# Altium integrated library Linear Technology Power Management Power Control.IntLib: 661 symbols (part 24 of 43)
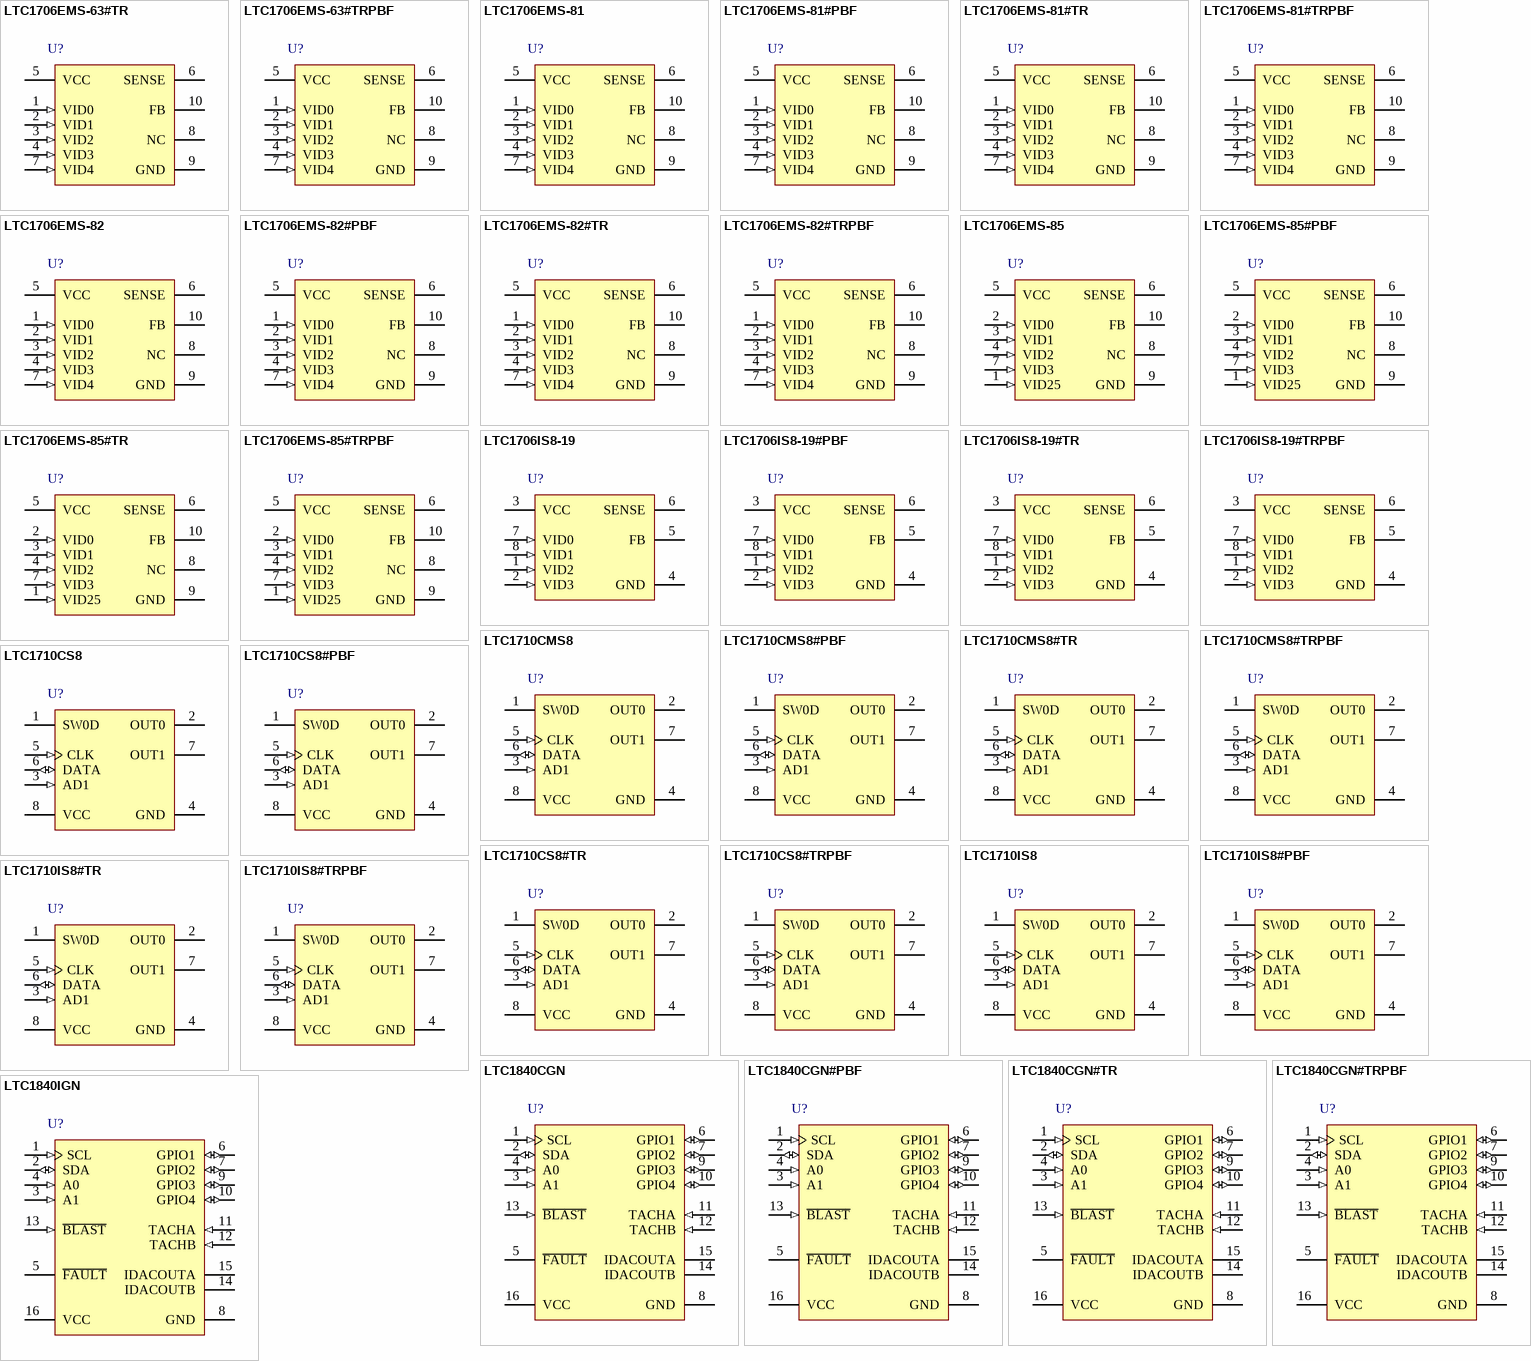
[diagram p42: symbols LTC1706EMS-63#TR to LTC1840IGN]

## LTC1706EMS-81#PBF
designator U?
5-Bit Desktop VID Voltage Programmer, 2.7 to 5.5 V Vin, 10-pin SOP (MS-10), -40 to 85 degC, Pb-Free; Manufacturer: Linear Technology; PartNumber: LTC1706EMS-81#PBF; PackageVersion: Rev. E, 06/2010; PackageReference: MS-10; PackageDescription: 10-Pin Plastic MSOP, Body 3 x 3 mm, Pitch 0.5 mm; Supplier 1: Digi-Key; Supplier Part Number 1: LTC1706EMS-81#PBF-ND; RoHS: TRUE; Mounting Technology: Surface Mount; ComponentLink1Description: Manufacturer URL; ComponentLink1URL: http://www.linear.com/; ComponentLink2Description: Datasheet; ComponentLink2URL: http://cds.linear.com/docs/en/datasheet/170681f.pdf; ComponentLink3Description: Package Specification; ComponentLink3URL: http://cds.linear.com/docs/en/packaging/05081661_F_MS.pdf
footprint LT-MS-10_N (SOP, 10-Leads, Body 3.1x3.1mm, Pitch 0.5mm, IPC Medium Density)
footprint LT-MS-10_L (SOP, 10-Leads, Body 3.1x3.1mm, Pitch 0.5mm, IPC High Density)
footprint LT-MS-10_M (SOP, 10-Leads, Body 3.1x3.1mm, Pitch 0.5mm, IPC Low Density)
pins: 1 VID0 (in), 2 VID1 (in), 3 VID2 (in), 4 VID3 (in), 5 VCC (power) "Power Supply Voltage. Range from 2.7V to 5.5V.", 6 SENSE "Regulator Output Voltage. Connect directly to regulator output sense node.", 7 VID4 (in), 8 NC "No Connect", 9 GND (power) "Ground. Connect to regulator signal ground", 10 FB "Feedback Input."

## LTC1706EMS-81#TR
designator U?
5-Bit Desktop VID Voltage Programmer, 2.7 to 5.5 V Vin, 10-pin SOP (MS-10), -40 to 85 degC, Tape and Reel; Manufacturer: Linear Technology; PartNumber: LTC1706EMS-81#TR; PackageVersion: Rev. E, 06/2010; PackageReference: MS-10; PackageDescription: 10-Pin Plastic MSOP, Body 3 x 3 mm, Pitch 0.5 mm; Supplier 1: Digi-Key; Supplier Part Number 1: LTC1706EMS-81#TR-ND; Packing: Tape and Reel; RoHS: FALSE; Mounting Technology: Surface Mount; ComponentLink1Description: Manufacturer URL; ComponentLink1URL: http://www.linear.com/; ComponentLink2Description: Datasheet; ComponentLink2URL: http://cds.linear.com/docs/en/datasheet/170681f.pdf; ComponentLink3Description: Package Specification; ComponentLink3URL: http://cds.linear.com/docs/en/packaging/05081661_F_MS.pdf
footprint LT-MS-10_N (SOP, 10-Leads, Body 3.1x3.1mm, Pitch 0.5mm, IPC Medium Density)
footprint LT-MS-10_L (SOP, 10-Leads, Body 3.1x3.1mm, Pitch 0.5mm, IPC High Density)
footprint LT-MS-10_M (SOP, 10-Leads, Body 3.1x3.1mm, Pitch 0.5mm, IPC Low Density)
pins: 1 VID0 (in), 2 VID1 (in), 3 VID2 (in), 4 VID3 (in), 5 VCC (power) "Power Supply Voltage. Range from 2.7V to 5.5V.", 6 SENSE "Regulator Output Voltage. Connect directly to regulator output sense node.", 7 VID4 (in), 8 NC "No Connect", 9 GND (power) "Ground. Connect to regulator signal ground", 10 FB "Feedback Input."

## LTC1706EMS-81#TRPBF
designator U?
5-Bit Desktop VID Voltage Programmer, 2.7 to 5.5 V Vin, 10-pin SOP (MS-10), -40 to 85 degC, Pb-Free, Tape and Reel; Manufacturer: Linear Technology; PartNumber: LTC1706EMS-81#TRPBF; PackageVersion: Rev. E, 06/2010; PackageReference: MS-10; PackageDescription: 10-Pin Plastic MSOP, Body 3 x 3 mm, Pitch 0.5 mm; Supplier 1: Digi-Key; Supplier Part Number 1: LTC1706EMS-81#TRPBF-ND; Packing: Tape and Reel; RoHS: TRUE; Mounting Technology: Surface Mount; ComponentLink1Description: Manufacturer URL; ComponentLink1URL: http://www.linear.com/; ComponentLink2Description: Datasheet; ComponentLink2URL: http://cds.linear.com/docs/en/datasheet/170681f.pdf; ComponentLink3Description: Package Specification; ComponentLink3URL: http://cds.linear.com/docs/en/packaging/05081661_F_MS.pdf
footprint LT-MS-10_N (SOP, 10-Leads, Body 3.1x3.1mm, Pitch 0.5mm, IPC Medium Density)
footprint LT-MS-10_L (SOP, 10-Leads, Body 3.1x3.1mm, Pitch 0.5mm, IPC High Density)
footprint LT-MS-10_M (SOP, 10-Leads, Body 3.1x3.1mm, Pitch 0.5mm, IPC Low Density)
pins: 1 VID0 (in), 2 VID1 (in), 3 VID2 (in), 4 VID3 (in), 5 VCC (power) "Power Supply Voltage. Range from 2.7V to 5.5V.", 6 SENSE "Regulator Output Voltage. Connect directly to regulator output sense node.", 7 VID4 (in), 8 NC "No Connect", 9 GND (power) "Ground. Connect to regulator signal ground", 10 FB "Feedback Input."

## LTC1706EMS-82
designator U?
VID Programmer, 2.7 to 5.5 V Vin, 10-pin SOP (MS-10), -40 to 85 degC; Manufacturer: Linear Technology; PartNumber: LTC1706EMS-82; DatasheetVersion: Rev. A; PackageVersion: Rev. E, 06/2010; PackageReference: MS-10; PackageDescription: 10-Pin Plastic MSOP, Body 3 x 3 mm, Pitch 0.5 mm; Supplier 1: Digi-Key; Supplier Part Number 1: LTC1706EMS-82-ND; RoHS: FALSE; Mounting Technology: Surface Mount; ComponentLink1Description: Manufacturer URL; ComponentLink1URL: http://www.linear.com/; ComponentLink2Description: Datasheet; ComponentLink2URL: http://cds.linear.com/docs/en/datasheet/170682fa.pdf; ComponentLink3Description: Package Specification; ComponentLink3URL: http://cds.linear.com/docs/en/packaging/05081661_F_MS.pdf
footprint LT-MS-10_N (SOP, 10-Leads, Body 3.1x3.1mm, Pitch 0.5mm, IPC Medium Density)
footprint LT-MS-10_L (SOP, 10-Leads, Body 3.1x3.1mm, Pitch 0.5mm, IPC High Density)
footprint LT-MS-10_M (SOP, 10-Leads, Body 3.1x3.1mm, Pitch 0.5mm, IPC Low Density)
pins: 1 VID0 (in), 2 VID1 (in), 3 VID2 (in), 4 VID3 (in), 5 VCC (power) "Power Supply Voltage. Range from 2.7V to 5.5V.", 6 SENSE "Regulator Output Voltage. Connect directly to regulator output sense node.", 7 VID4 (in), 8 NC "No Connect", 9 GND (power) "Ground. Connect to regulator signal ground", 10 FB "Feedback Input."

## LTC1706EMS-82#PBF
designator U?
VID Programmer, 2.7 to 5.5 V Vin, 10-pin SOP (MS-10), -40 to 85 degC, Pb-Free; Manufacturer: Linear Technology; PartNumber: LTC1706EMS-82#PBF; DatasheetVersion: Rev. A; PackageVersion: Rev. E, 06/2010; PackageReference: MS-10; PackageDescription: 10-Pin Plastic MSOP, Body 3 x 3 mm, Pitch 0.5 mm; Supplier 1: Digi-Key; Supplier Part Number 1: LTC1706EMS-82#PBF-ND; RoHS: TRUE; Mounting Technology: Surface Mount; ComponentLink1Description: Manufacturer URL; ComponentLink1URL: http://www.linear.com/; ComponentLink2Description: Datasheet; ComponentLink2URL: http://cds.linear.com/docs/en/datasheet/170682fa.pdf; ComponentLink3Description: Package Specification; ComponentLink3URL: http://cds.linear.com/docs/en/packaging/05081661_F_MS.pdf
footprint LT-MS-10_N (SOP, 10-Leads, Body 3.1x3.1mm, Pitch 0.5mm, IPC Medium Density)
footprint LT-MS-10_L (SOP, 10-Leads, Body 3.1x3.1mm, Pitch 0.5mm, IPC High Density)
footprint LT-MS-10_M (SOP, 10-Leads, Body 3.1x3.1mm, Pitch 0.5mm, IPC Low Density)
pins: 1 VID0 (in), 2 VID1 (in), 3 VID2 (in), 4 VID3 (in), 5 VCC (power) "Power Supply Voltage. Range from 2.7V to 5.5V.", 6 SENSE "Regulator Output Voltage. Connect directly to regulator output sense node.", 7 VID4 (in), 8 NC "No Connect", 9 GND (power) "Ground. Connect to regulator signal ground", 10 FB "Feedback Input."

## LTC1706EMS-82#TR
designator U?
VID Programmer, 2.7 to 5.5 V Vin, 10-pin SOP (MS-10), -40 to 85 degC, Tape and Reel; Manufacturer: Linear Technology; PartNumber: LTC1706EMS-82#TR; DatasheetVersion: Rev. A; PackageVersion: Rev. E, 06/2010; PackageReference: MS-10; PackageDescription: 10-Pin Plastic MSOP, Body 3 x 3 mm, Pitch 0.5 mm; Supplier 1: Digi-Key; Supplier Part Number 1: LTC1706EMS-82#TR-ND; Packing: Tape and Reel; RoHS: FALSE; Mounting Technology: Surface Mount; ComponentLink1Description: Manufacturer URL; ComponentLink1URL: http://www.linear.com/; ComponentLink2Description: Datasheet; ComponentLink2URL: http://cds.linear.com/docs/en/datasheet/170682fa.pdf; ComponentLink3Description: Package Specification; ComponentLink3URL: http://cds.linear.com/docs/en/packaging/05081661_F_MS.pdf
footprint LT-MS-10_N (SOP, 10-Leads, Body 3.1x3.1mm, Pitch 0.5mm, IPC Medium Density)
footprint LT-MS-10_L (SOP, 10-Leads, Body 3.1x3.1mm, Pitch 0.5mm, IPC High Density)
footprint LT-MS-10_M (SOP, 10-Leads, Body 3.1x3.1mm, Pitch 0.5mm, IPC Low Density)
pins: 1 VID0 (in), 2 VID1 (in), 3 VID2 (in), 4 VID3 (in), 5 VCC (power) "Power Supply Voltage. Range from 2.7V to 5.5V.", 6 SENSE "Regulator Output Voltage. Connect directly to regulator output sense node.", 7 VID4 (in), 8 NC "No Connect", 9 GND (power) "Ground. Connect to regulator signal ground", 10 FB "Feedback Input."

## LTC1706EMS-82#TRPBF
designator U?
VID Programmer, 2.7 to 5.5 V Vin, 10-pin SOP (MS-10), -40 to 85 degC, Pb-Free, Tape and Reel; Manufacturer: Linear Technology; PartNumber: LTC1706EMS-82#TRPBF; DatasheetVersion: Rev. A; PackageVersion: Rev. E, 06/2010; PackageReference: MS-10; PackageDescription: 10-Pin Plastic MSOP, Body 3 x 3 mm, Pitch 0.5 mm; Supplier 1: Digi-Key; Supplier Part Number 1: LTC1706EMS-82#TRPBF-ND; Packing: Tape and Reel; RoHS: TRUE; Mounting Technology: Surface Mount; ComponentLink1Description: Manufacturer URL; ComponentLink1URL: http://www.linear.com/; ComponentLink2Description: Datasheet; ComponentLink2URL: http://cds.linear.com/docs/en/datasheet/170682fa.pdf; ComponentLink3Description: Package Specification; ComponentLink3URL: http://cds.linear.com/docs/en/packaging/05081661_F_MS.pdf
footprint LT-MS-10_N (SOP, 10-Leads, Body 3.1x3.1mm, Pitch 0.5mm, IPC Medium Density)
footprint LT-MS-10_L (SOP, 10-Leads, Body 3.1x3.1mm, Pitch 0.5mm, IPC High Density)
footprint LT-MS-10_M (SOP, 10-Leads, Body 3.1x3.1mm, Pitch 0.5mm, IPC Low Density)
pins: 1 VID0 (in), 2 VID1 (in), 3 VID2 (in), 4 VID3 (in), 5 VCC (power) "Power Supply Voltage. Range from 2.7V to 5.5V.", 6 SENSE "Regulator Output Voltage. Connect directly to regulator output sense node.", 7 VID4 (in), 8 NC "No Connect", 9 GND (power) "Ground. Connect to regulator signal ground", 10 FB "Feedback Input."

## LTC1706EMS-85
designator U?
VID Programmer, 2.7 to 5.5 V Vin, 10-pin SOP (MS-10), -40 to 85 degC; Manufacturer: Linear Technology; PartNumber: LTC1706EMS-85; PackageVersion: Rev. E, 06/2010; PackageReference: MS-10; PackageDescription: 10-Pin Plastic MSOP, Body 3 x 3 mm, Pitch 0.5 mm; Supplier 1: Digi-Key; Supplier Part Number 1: LTC1706EMS-85-ND; RoHS: FALSE; Mounting Technology: Surface Mount; ComponentLink1Description: Manufacturer URL; ComponentLink1URL: http://www.linear.com/; ComponentLink2Description: Datasheet; ComponentLink2URL: http://cds.linear.com/docs/en/datasheet/170685f.pdf; ComponentLink3Description: Package Specification; ComponentLink3URL: http://cds.linear.com/docs/en/packaging/05081661_F_MS.pdf
footprint LT-MS-10_N (SOP, 10-Leads, Body 3.1x3.1mm, Pitch 0.5mm, IPC Medium Density)
footprint LT-MS-10_L (SOP, 10-Leads, Body 3.1x3.1mm, Pitch 0.5mm, IPC High Density)
footprint LT-MS-10_M (SOP, 10-Leads, Body 3.1x3.1mm, Pitch 0.5mm, IPC Low Density)
pins: 1 VID25 (in) "Programming Input. GND = LOW, VCC or Float = HIGH. Refer to Table 1 for programming information. Connect to associated VID pin of uP.", 2 VID0 (in) "Programming Input. GND = LOW, VCC or Float = HIGH. Refer to Table 1 for programming information. Connect to associated VID pin of uP.", 3 VID1 (in) "Programming Input. GND = LOW, VCC or Float = HIGH. Refer to Table 1 for programming information. Connect to associated VID pin of uP.", 4 VID2 (in) "Programming Input. GND = LOW, VCC or Float = HIGH. Refer to Table 1 for programming information. Connect to associated VID pin of uP.", 5 VCC (power) "Power Supply Voltage. May range from 2.7V to 5.5V.", 6 SENSE "Regulator Output Voltage. Connect directly to regulator output sense node or VDIFFOUT when used with the LTC1929 or LTC1629.", 7 VID3 (in) "Programming Input. GND = LOW, VCC or Float = HIGH. Refer to Table 1 for programming information. Connect to associated VID pin of uP.", 8 NC "No Connect.", 9 GND (power) "Ground. Connect to regulator signal ground.", 10 FB "Feedback Input. Connect to the 0.8V feedback pin of a compatible regulator or the EAIN pin of the LTC1929 or LTC1629."

## LTC1706EMS-85#PBF
designator U?
VID Programmer, 2.7 to 5.5 V Vin, 10-pin SOP (MS-10), -40 to 85 degC, Pb-Free; Manufacturer: Linear Technology; PartNumber: LTC1706EMS-85#PBF; PackageVersion: Rev. E, 06/2010; PackageReference: MS-10; PackageDescription: 10-Pin Plastic MSOP, Body 3 x 3 mm, Pitch 0.5 mm; Supplier 1: Digi-Key; Supplier Part Number 1: LTC1706EMS-85#PBF-ND; RoHS: TRUE; Mounting Technology: Surface Mount; ComponentLink1Description: Manufacturer URL; ComponentLink1URL: http://www.linear.com/; ComponentLink2Description: Datasheet; ComponentLink2URL: http://cds.linear.com/docs/en/datasheet/170685f.pdf; ComponentLink3Description: Package Specification; ComponentLink3URL: http://cds.linear.com/docs/en/packaging/05081661_F_MS.pdf
footprint LT-MS-10_N (SOP, 10-Leads, Body 3.1x3.1mm, Pitch 0.5mm, IPC Medium Density)
footprint LT-MS-10_L (SOP, 10-Leads, Body 3.1x3.1mm, Pitch 0.5mm, IPC High Density)
footprint LT-MS-10_M (SOP, 10-Leads, Body 3.1x3.1mm, Pitch 0.5mm, IPC Low Density)
pins: 1 VID25 (in) "Programming Input. GND = LOW, VCC or Float = HIGH. Refer to Table 1 for programming information. Connect to associated VID pin of uP.", 2 VID0 (in) "Programming Input. GND = LOW, VCC or Float = HIGH. Refer to Table 1 for programming information. Connect to associated VID pin of uP.", 3 VID1 (in) "Programming Input. GND = LOW, VCC or Float = HIGH. Refer to Table 1 for programming information. Connect to associated VID pin of uP.", 4 VID2 (in) "Programming Input. GND = LOW, VCC or Float = HIGH. Refer to Table 1 for programming information. Connect to associated VID pin of uP.", 5 VCC (power) "Power Supply Voltage. May range from 2.7V to 5.5V.", 6 SENSE "Regulator Output Voltage. Connect directly to regulator output sense node or VDIFFOUT when used with the LTC1929 or LTC1629.", 7 VID3 (in) "Programming Input. GND = LOW, VCC or Float = HIGH. Refer to Table 1 for programming information. Connect to associated VID pin of uP.", 8 NC "No Connect.", 9 GND (power) "Ground. Connect to regulator signal ground.", 10 FB "Feedback Input. Connect to the 0.8V feedback pin of a compatible regulator or the EAIN pin of the LTC1929 or LTC1629."

## LTC1706EMS-85#TR
designator U?
VID Programmer, 2.7 to 5.5 V Vin, 10-pin SOP (MS-10), -40 to 85 degC, Tape and Reel; Manufacturer: Linear Technology; PartNumber: LTC1706EMS-85#TR; PackageVersion: Rev. E, 06/2010; PackageReference: MS-10; PackageDescription: 10-Pin Plastic MSOP, Body 3 x 3 mm, Pitch 0.5 mm; Supplier 1: Digi-Key; Supplier Part Number 1: LTC1706EMS-85TR-ND; Packing: Tape and Reel; RoHS: FALSE; Mounting Technology: Surface Mount; ComponentLink1Description: Manufacturer URL; ComponentLink1URL: http://www.linear.com/; ComponentLink2Description: Datasheet; ComponentLink2URL: http://cds.linear.com/docs/en/datasheet/170685f.pdf; ComponentLink3Description: Package Specification; ComponentLink3URL: http://cds.linear.com/docs/en/packaging/05081661_F_MS.pdf
footprint LT-MS-10_N (SOP, 10-Leads, Body 3.1x3.1mm, Pitch 0.5mm, IPC Medium Density)
footprint LT-MS-10_L (SOP, 10-Leads, Body 3.1x3.1mm, Pitch 0.5mm, IPC High Density)
footprint LT-MS-10_M (SOP, 10-Leads, Body 3.1x3.1mm, Pitch 0.5mm, IPC Low Density)
pins: 1 VID25 (in) "Programming Input. GND = LOW, VCC or Float = HIGH. Refer to Table 1 for programming information. Connect to associated VID pin of uP.", 2 VID0 (in) "Programming Input. GND = LOW, VCC or Float = HIGH. Refer to Table 1 for programming information. Connect to associated VID pin of uP.", 3 VID1 (in) "Programming Input. GND = LOW, VCC or Float = HIGH. Refer to Table 1 for programming information. Connect to associated VID pin of uP.", 4 VID2 (in) "Programming Input. GND = LOW, VCC or Float = HIGH. Refer to Table 1 for programming information. Connect to associated VID pin of uP.", 5 VCC (power) "Power Supply Voltage. May range from 2.7V to 5.5V.", 6 SENSE "Regulator Output Voltage. Connect directly to regulator output sense node or VDIFFOUT when used with the LTC1929 or LTC1629.", 7 VID3 (in) "Programming Input. GND = LOW, VCC or Float = HIGH. Refer to Table 1 for programming information. Connect to associated VID pin of uP.", 8 NC "No Connect.", 9 GND (power) "Ground. Connect to regulator signal ground.", 10 FB "Feedback Input. Connect to the 0.8V feedback pin of a compatible regulator or the EAIN pin of the LTC1929 or LTC1629."

## LTC1706EMS-85#TRPBF
designator U?
VID Programmer, 2.7 to 5.5 V Vin, 10-pin SOP (MS-10), -40 to 85 degC, Pb-Free, Tape and Reel; Manufacturer: Linear Technology; PartNumber: LTC1706EMS-85#TRPBF; PackageVersion: Rev. E, 06/2010; PackageReference: MS-10; PackageDescription: 10-Pin Plastic MSOP, Body 3 x 3 mm, Pitch 0.5 mm; Supplier 1: Digi-Key; Supplier Part Number 1: LTC1706EMS-85#TRPBF-ND; Packing: Tape and Reel; RoHS: TRUE; Mounting Technology: Surface Mount; ComponentLink1Description: Manufacturer URL; ComponentLink1URL: http://www.linear.com/; ComponentLink2Description: Datasheet; ComponentLink2URL: http://cds.linear.com/docs/en/datasheet/170685f.pdf; ComponentLink3Description: Package Specification; ComponentLink3URL: http://cds.linear.com/docs/en/packaging/05081661_F_MS.pdf
footprint LT-MS-10_N (SOP, 10-Leads, Body 3.1x3.1mm, Pitch 0.5mm, IPC Medium Density)
footprint LT-MS-10_L (SOP, 10-Leads, Body 3.1x3.1mm, Pitch 0.5mm, IPC High Density)
footprint LT-MS-10_M (SOP, 10-Leads, Body 3.1x3.1mm, Pitch 0.5mm, IPC Low Density)
pins: 1 VID25 (in) "Programming Input. GND = LOW, VCC or Float = HIGH. Refer to Table 1 for programming information. Connect to associated VID pin of uP.", 2 VID0 (in) "Programming Input. GND = LOW, VCC or Float = HIGH. Refer to Table 1 for programming information. Connect to associated VID pin of uP.", 3 VID1 (in) "Programming Input. GND = LOW, VCC or Float = HIGH. Refer to Table 1 for programming information. Connect to associated VID pin of uP.", 4 VID2 (in) "Programming Input. GND = LOW, VCC or Float = HIGH. Refer to Table 1 for programming information. Connect to associated VID pin of uP.", 5 VCC (power) "Power Supply Voltage. May range from 2.7V to 5.5V.", 6 SENSE "Regulator Output Voltage. Connect directly to regulator output sense node or VDIFFOUT when used with the LTC1929 or LTC1629.", 7 VID3 (in) "Programming Input. GND = LOW, VCC or Float = HIGH. Refer to Table 1 for programming information. Connect to associated VID pin of uP.", 8 NC "No Connect.", 9 GND (power) "Ground. Connect to regulator signal ground.", 10 FB "Feedback Input. Connect to the 0.8V feedback pin of a compatible regulator or the EAIN pin of the LTC1929 or LTC1629."

## LTC1706IS8-19
designator U?
VID Programmer, 2.7 to 5.5 V Vin, 8-pin SOIC (S8-8), -40 to 85 degC; Manufacturer: Linear Technology; PartNumber: LTC1706IS8-19; PackageVersion: Rev. G, 03/2012; PackageReference: S8-8; PackageDescription: 8-Pin Plastic Small Outline (Narrow .150 Inch), Body 4.9 x 3.9 mm, Pitch 1.27 mm; Supplier 1: Digi-Key; Supplier Part Number 1: LTC1706IS8-19-ND; RoHS: FALSE; Mounting Technology: Surface Mount; ComponentLink1Description: Manufacturer URL; ComponentLink1URL: http://www.linear.com/; ComponentLink2Description: Datasheet; ComponentLink2URL: http://cds.linear.com/docs/en/datasheet/170619f.pdf; ComponentLink3Description: Package Specification; ComponentLink3URL: http://cds.linear.com/docs/en/packaging/05081610_G_SO8.pdf
footprint LT-S8-8_N (SOIC, 8-Leads, Body 5x4mm, Pitch 1.27mm, IPC Medium Density)
footprint LT-S8-8_L (SOIC, 8-Leads, Body 5x4mm, Pitch 1.27mm, IPC High Density)
footprint LT-S8-8_M (SOIC, 8-Leads, Body 5x4mm, Pitch 1.27mm, IPC Low Density)
pins: 1 VID2 (in) "2nd MSB Programming Input. Low = GND, High = VCC or Float. Grounding VID2 adds 200mV to the output sense voltage.", 2 VID3 (in) "1st MSB Programming Input. Low = GND, High = VCC or Float. Grounding VID3 adds 400mV to the output sense voltage.", 3 VCC (power) "Power Supply Voltage. Range from 2.7V to 5.5V.", 4 GND (power) "Ground. Connect to regulator signal ground.", 5 FB "Feedback Input. Connect to the 1.19V feedback pin of a compatible regulator.", 6 SENSE "Regulator Output Voltage. Connect directly to regulator output sense node.", 7 VID0 (in) "LSB Programming Input. Low = GND, High = VCC or Float. Grounding VID0 adds 50mV to the output sense voltage.", 8 VID1 (in) "3rd MSB Programming Input. Low = GND, High = VCC or Float. Grounding VID1 adds 100mV to the output sense voltage."

## LTC1706IS8-19#PBF
designator U?
VID Programmer, 2.7 to 5.5 V Vin, 8-pin SOIC (S8-8), -40 to 85 degC, Pb-Free; Manufacturer: Linear Technology; PartNumber: LTC1706IS8-19#PBF; PackageVersion: Rev. G, 03/2012; PackageReference: S8-8; PackageDescription: 8-Pin Plastic Small Outline (Narrow .150 Inch), Body 4.9 x 3.9 mm, Pitch 1.27 mm; Supplier 1: Digi-Key; Supplier Part Number 1: LTC1706IS8-19#PBF-ND; RoHS: TRUE; Mounting Technology: Surface Mount; ComponentLink1Description: Manufacturer URL; ComponentLink1URL: http://www.linear.com/; ComponentLink2Description: Datasheet; ComponentLink2URL: http://cds.linear.com/docs/en/datasheet/170619f.pdf; ComponentLink3Description: Package Specification; ComponentLink3URL: http://cds.linear.com/docs/en/packaging/05081610_G_SO8.pdf
footprint LT-S8-8_N (SOIC, 8-Leads, Body 5x4mm, Pitch 1.27mm, IPC Medium Density)
footprint LT-S8-8_L (SOIC, 8-Leads, Body 5x4mm, Pitch 1.27mm, IPC High Density)
footprint LT-S8-8_M (SOIC, 8-Leads, Body 5x4mm, Pitch 1.27mm, IPC Low Density)
pins: 1 VID2 (in) "2nd MSB Programming Input. Low = GND, High = VCC or Float. Grounding VID2 adds 200mV to the output sense voltage.", 2 VID3 (in) "1st MSB Programming Input. Low = GND, High = VCC or Float. Grounding VID3 adds 400mV to the output sense voltage.", 3 VCC (power) "Power Supply Voltage. Range from 2.7V to 5.5V.", 4 GND (power) "Ground. Connect to regulator signal ground.", 5 FB "Feedback Input. Connect to the 1.19V feedback pin of a compatible regulator.", 6 SENSE "Regulator Output Voltage. Connect directly to regulator output sense node.", 7 VID0 (in) "LSB Programming Input. Low = GND, High = VCC or Float. Grounding VID0 adds 50mV to the output sense voltage.", 8 VID1 (in) "3rd MSB Programming Input. Low = GND, High = VCC or Float. Grounding VID1 adds 100mV to the output sense voltage."

## LTC1706IS8-19#TR
designator U?
VID Programmer, 2.7 to 5.5 V Vin, 8-pin SOIC (S8-8), -40 to 85 degC, Tape and Reel; Manufacturer: Linear Technology; PartNumber: LTC1706IS8-19#TR; PackageVersion: Rev. G, 03/2012; PackageReference: S8-8; PackageDescription: 8-Pin Plastic Small Outline (Narrow .150 Inch), Body 4.9 x 3.9 mm, Pitch 1.27 mm; Supplier 1: Digi-Key; Supplier Part Number 1: LTC1706IS8-19#TR-ND; Packing: Tape and Reel; RoHS: FALSE; Mounting Technology: Surface Mount; ComponentLink1Description: Manufacturer URL; ComponentLink1URL: http://www.linear.com/; ComponentLink2Description: Datasheet; ComponentLink2URL: http://cds.linear.com/docs/en/datasheet/170619f.pdf; ComponentLink3Description: Package Specification; ComponentLink3URL: http://cds.linear.com/docs/en/packaging/05081610_G_SO8.pdf
footprint LT-S8-8_N (SOIC, 8-Leads, Body 5x4mm, Pitch 1.27mm, IPC Medium Density)
footprint LT-S8-8_L (SOIC, 8-Leads, Body 5x4mm, Pitch 1.27mm, IPC High Density)
footprint LT-S8-8_M (SOIC, 8-Leads, Body 5x4mm, Pitch 1.27mm, IPC Low Density)
pins: 1 VID2 (in) "2nd MSB Programming Input. Low = GND, High = VCC or Float. Grounding VID2 adds 200mV to the output sense voltage.", 2 VID3 (in) "1st MSB Programming Input. Low = GND, High = VCC or Float. Grounding VID3 adds 400mV to the output sense voltage.", 3 VCC (power) "Power Supply Voltage. Range from 2.7V to 5.5V.", 4 GND (power) "Ground. Connect to regulator signal ground.", 5 FB "Feedback Input. Connect to the 1.19V feedback pin of a compatible regulator.", 6 SENSE "Regulator Output Voltage. Connect directly to regulator output sense node.", 7 VID0 (in) "LSB Programming Input. Low = GND, High = VCC or Float. Grounding VID0 adds 50mV to the output sense voltage.", 8 VID1 (in) "3rd MSB Programming Input. Low = GND, High = VCC or Float. Grounding VID1 adds 100mV to the output sense voltage."

## LTC1706IS8-19#TRPBF
designator U?
VID Programmer, 2.7 to 5.5 V Vin, 8-pin SOIC (S8-8), -40 to 85 degC, Pb-Free, Tape and Reel; Manufacturer: Linear Technology; PartNumber: LTC1706IS8-19#TRPBF; PackageVersion: Rev. G, 03/2012; PackageReference: S8-8; PackageDescription: 8-Pin Plastic Small Outline (Narrow .150 Inch), Body 4.9 x 3.9 mm, Pitch 1.27 mm; Supplier 1: Digi-Key; Supplier Part Number 1: LTC1706IS8-19#TRPBF-ND; Packing: Tape and Reel; RoHS: TRUE; Mounting Technology: Surface Mount; ComponentLink1Description: Manufacturer URL; ComponentLink1URL: http://www.linear.com/; ComponentLink2Description: Datasheet; ComponentLink2URL: http://cds.linear.com/docs/en/datasheet/170619f.pdf; ComponentLink3Description: Package Specification; ComponentLink3URL: http://cds.linear.com/docs/en/packaging/05081610_G_SO8.pdf
footprint LT-S8-8_N (SOIC, 8-Leads, Body 5x4mm, Pitch 1.27mm, IPC Medium Density)
footprint LT-S8-8_L (SOIC, 8-Leads, Body 5x4mm, Pitch 1.27mm, IPC High Density)
footprint LT-S8-8_M (SOIC, 8-Leads, Body 5x4mm, Pitch 1.27mm, IPC Low Density)
pins: 1 VID2 (in) "2nd MSB Programming Input. Low = GND, High = VCC or Float. Grounding VID2 adds 200mV to the output sense voltage.", 2 VID3 (in) "1st MSB Programming Input. Low = GND, High = VCC or Float. Grounding VID3 adds 400mV to the output sense voltage.", 3 VCC (power) "Power Supply Voltage. Range from 2.7V to 5.5V.", 4 GND (power) "Ground. Connect to regulator signal ground.", 5 FB "Feedback Input. Connect to the 1.19V feedback pin of a compatible regulator.", 6 SENSE "Regulator Output Voltage. Connect directly to regulator output sense node.", 7 VID0 (in) "LSB Programming Input. Low = GND, High = VCC or Float. Grounding VID0 adds 50mV to the output sense voltage.", 8 VID1 (in) "3rd MSB Programming Input. Low = GND, High = VCC or Float. Grounding VID1 adds 100mV to the output sense voltage."

## LTC1710CMS8
designator U?
Control Up to 6 Peripherals on Same Bus, 2.7 to 5.5 V Vin, 8-pin SOP (MS8-8), 0 to 70 degC; Manufacturer: Linear Technology; PartNumber: LTC1710CMS8; PackageVersion: Rev. G, 03/2012; PackageReference: MS8-8; PackageDescription: 8-Pin Plastic MSOP, Body 3 x 3 mm, Pitch 0.65 mm; Supplier 1: Digi-Key; Supplier Part Number 1: LTC1710CMS8-ND; RoHS: FALSE; Mounting Technology: Surface Mount; ComponentLink1Description: Manufacturer URL; ComponentLink1URL: http://www.linear.com/; ComponentLink2Description: Datasheet; ComponentLink2URL: http://cds.linear.com/docs/en/datasheet/1710f.pdf; ComponentLink3Description: Package Specification; ComponentLink3URL: http://cds.linear.com/docs/en/packaging/05081660_G_MS8.pdf
footprint LT-MS8-8_N (SOP, 8-Leads, Body 3.1x3.1mm, Pitch 0.65mm, IPC Medium Density)
footprint LT-MS8-8_L (SOP, 8-Leads, Body 3.1x3.1mm, Pitch 0.65mm, IPC High Density)
footprint LT-MS8-8_M (SOP, 8-Leads, Body 3.1x3.1mm, Pitch 0.65mm, IPC Low Density)
pins: 1 SW0D (power) "Drain Supply of Switch 0. User-programmable from 0 V to VCC.", 2 OUT0 (power) "Source Output of Switch 0. Maximum load of 300 mA; controlled by LSB of command byte.", 3 AD1 (in) "Three-State Programmable Address Pin. Must be connected directly to VCC, GND or VCC/2 (using two resistors <=1 M). Do not float this pin.", 4 GND (power) "Ground Connection.", 5 CLK (in) "Serial Clock Interface. Must be pulled high to VCC with external resistor. The pull-up current must be limited to 350 uA.", 6 DATA (io) "Open-Drain Connected Serial Data Interface. Must be pulled high to VCC with external resistor. The pull-up current must be limited to 350uA.", 7 OUT1 (power) "Source Output of Switch 1. Maximum load of 300 mA; controlled by 2nd LSB of command byte.", 8 VCC (power) "Input Supply Voltage. Operating range from 2.7 V to 5.5 V."

## LTC1710CMS8#PBF
designator U?
Control Up to 6 Peripherals on Same Bus, 2.7 to 5.5 V Vin, 8-pin SOP (MS8-8), 0 to 70 degC, Pb-Free; Manufacturer: Linear Technology; PartNumber: LTC1710CMS8#PBF; PackageVersion: Rev. G, 03/2012; PackageReference: MS8-8; PackageDescription: 8-Pin Plastic MSOP, Body 3 x 3 mm, Pitch 0.65 mm; Supplier 1: Digi-Key; Supplier Part Number 1: LTC1710CMS8#PBF-ND; RoHS: TRUE; Mounting Technology: Surface Mount; ComponentLink1Description: Manufacturer URL; ComponentLink1URL: http://www.linear.com/; ComponentLink2Description: Datasheet; ComponentLink2URL: http://cds.linear.com/docs/en/datasheet/1710f.pdf; ComponentLink3Description: Package Specification; ComponentLink3URL: http://cds.linear.com/docs/en/packaging/05081660_G_MS8.pdf
footprint LT-MS8-8_N (SOP, 8-Leads, Body 3.1x3.1mm, Pitch 0.65mm, IPC Medium Density)
footprint LT-MS8-8_L (SOP, 8-Leads, Body 3.1x3.1mm, Pitch 0.65mm, IPC High Density)
footprint LT-MS8-8_M (SOP, 8-Leads, Body 3.1x3.1mm, Pitch 0.65mm, IPC Low Density)
pins: 1 SW0D (power) "Drain Supply of Switch 0. User-programmable from 0 V to VCC.", 2 OUT0 (power) "Source Output of Switch 0. Maximum load of 300 mA; controlled by LSB of command byte.", 3 AD1 (in) "Three-State Programmable Address Pin. Must be connected directly to VCC, GND or VCC/2 (using two resistors <=1 M). Do not float this pin.", 4 GND (power) "Ground Connection.", 5 CLK (in) "Serial Clock Interface. Must be pulled high to VCC with external resistor. The pull-up current must be limited to 350 uA.", 6 DATA (io) "Open-Drain Connected Serial Data Interface. Must be pulled high to VCC with external resistor. The pull-up current must be limited to 350uA.", 7 OUT1 (power) "Source Output of Switch 1. Maximum load of 300 mA; controlled by 2nd LSB of command byte.", 8 VCC (power) "Input Supply Voltage. Operating range from 2.7 V to 5.5 V."

## LTC1710CMS8#TR
designator U?
Control Up to 6 Peripherals on Same Bus, 2.7 to 5.5 V Vin, 8-pin SOP (MS8-8), 0 to 70 degC, Tape and Reel; Manufacturer: Linear Technology; PartNumber: LTC1710CMS8#TR; PackageVersion: Rev. G, 03/2012; PackageReference: MS8-8; PackageDescription: 8-Pin Plastic MSOP, Body 3 x 3 mm, Pitch 0.65 mm; Supplier 1: Digi-Key; Supplier Part Number 1: LTC1710CMS8#TR-ND; Packing: Tape and Reel; RoHS: FALSE; Mounting Technology: Surface Mount; ComponentLink1Description: Manufacturer URL; ComponentLink1URL: http://www.linear.com/; ComponentLink2Description: Datasheet; ComponentLink2URL: http://cds.linear.com/docs/en/datasheet/1710f.pdf; ComponentLink3Description: Package Specification; ComponentLink3URL: http://cds.linear.com/docs/en/packaging/05081660_G_MS8.pdf
footprint LT-MS8-8_N (SOP, 8-Leads, Body 3.1x3.1mm, Pitch 0.65mm, IPC Medium Density)
footprint LT-MS8-8_L (SOP, 8-Leads, Body 3.1x3.1mm, Pitch 0.65mm, IPC High Density)
footprint LT-MS8-8_M (SOP, 8-Leads, Body 3.1x3.1mm, Pitch 0.65mm, IPC Low Density)
pins: 1 SW0D (power) "Drain Supply of Switch 0. User-programmable from 0 V to VCC.", 2 OUT0 (power) "Source Output of Switch 0. Maximum load of 300 mA; controlled by LSB of command byte.", 3 AD1 (in) "Three-State Programmable Address Pin. Must be connected directly to VCC, GND or VCC/2 (using two resistors <=1 M). Do not float this pin.", 4 GND (power) "Ground Connection.", 5 CLK (in) "Serial Clock Interface. Must be pulled high to VCC with external resistor. The pull-up current must be limited to 350 uA.", 6 DATA (io) "Open-Drain Connected Serial Data Interface. Must be pulled high to VCC with external resistor. The pull-up current must be limited to 350uA.", 7 OUT1 (power) "Source Output of Switch 1. Maximum load of 300 mA; controlled by 2nd LSB of command byte.", 8 VCC (power) "Input Supply Voltage. Operating range from 2.7 V to 5.5 V."

## LTC1710CMS8#TRPBF
designator U?
Control Up to 6 Peripherals on Same Bus, 2.7 to 5.5 V Vin, 8-pin SOP (MS8-8), 0 to 70 degC, Pb-Free, Tape and Reel; Manufacturer: Linear Technology; PartNumber: LTC1710CMS8#TRPBF; PackageVersion: Rev. G, 03/2012; PackageReference: MS8-8; PackageDescription: 8-Pin Plastic MSOP, Body 3 x 3 mm, Pitch 0.65 mm; Supplier 1: Digi-Key; Supplier Part Number 1: LTC1710CMS8#TRPBF-ND; Packing: Tape and Reel; RoHS: TRUE; Mounting Technology: Surface Mount; ComponentLink1Description: Manufacturer URL; ComponentLink1URL: http://www.linear.com/; ComponentLink2Description: Datasheet; ComponentLink2URL: http://cds.linear.com/docs/en/datasheet/1710f.pdf; ComponentLink3Description: Package Specification; ComponentLink3URL: http://cds.linear.com/docs/en/packaging/05081660_G_MS8.pdf
footprint LT-MS8-8_N (SOP, 8-Leads, Body 3.1x3.1mm, Pitch 0.65mm, IPC Medium Density)
footprint LT-MS8-8_L (SOP, 8-Leads, Body 3.1x3.1mm, Pitch 0.65mm, IPC High Density)
footprint LT-MS8-8_M (SOP, 8-Leads, Body 3.1x3.1mm, Pitch 0.65mm, IPC Low Density)
pins: 1 SW0D (power) "Drain Supply of Switch 0. User-programmable from 0 V to VCC.", 2 OUT0 (power) "Source Output of Switch 0. Maximum load of 300 mA; controlled by LSB of command byte.", 3 AD1 (in) "Three-State Programmable Address Pin. Must be connected directly to VCC, GND or VCC/2 (using two resistors <=1 M). Do not float this pin.", 4 GND (power) "Ground Connection.", 5 CLK (in) "Serial Clock Interface. Must be pulled high to VCC with external resistor. The pull-up current must be limited to 350 uA.", 6 DATA (io) "Open-Drain Connected Serial Data Interface. Must be pulled high to VCC with external resistor. The pull-up current must be limited to 350uA.", 7 OUT1 (power) "Source Output of Switch 1. Maximum load of 300 mA; controlled by 2nd LSB of command byte.", 8 VCC (power) "Input Supply Voltage. Operating range from 2.7 V to 5.5 V."

## LTC1710CS8
designator U?
Control Up to 6 Peripherals on Same Bus, 2.7 to 5.5 V Vin, 8-pin SOIC (S8-8), 0 to 70 degC; Manufacturer: Linear Technology; PartNumber: LTC1710CS8; PackageVersion: Rev. G, 03/2012; PackageReference: S8-8; PackageDescription: 8-Pin Plastic Small Outline (Narrow .150 Inch), Body 4.9 x 3.9 mm, Pitch 1.27 mm; Supplier 1: Digi-Key; Supplier Part Number 1: LTC1710CS8-ND; RoHS: FALSE; Mounting Technology: Surface Mount; ComponentLink1Description: Manufacturer URL; ComponentLink1URL: http://www.linear.com/; ComponentLink2Description: Datasheet; ComponentLink2URL: http://cds.linear.com/docs/en/datasheet/1710f.pdf; ComponentLink3Description: Package Specification; ComponentLink3URL: http://cds.linear.com/docs/en/packaging/05081610_G_SO8.pdf
footprint LT-S8-8_N (SOIC, 8-Leads, Body 5x4mm, Pitch 1.27mm, IPC Medium Density)
footprint LT-S8-8_L (SOIC, 8-Leads, Body 5x4mm, Pitch 1.27mm, IPC High Density)
footprint LT-S8-8_M (SOIC, 8-Leads, Body 5x4mm, Pitch 1.27mm, IPC Low Density)
pins: 1 SW0D (power) "Drain Supply of Switch 0. User-programmable from 0V to VCC.", 2 OUT0 (power) "Source Output of Switch 0. Maximum load of 300mA; controlled by LSB of command byte.", 3 AD1 (in) "Three-State Programmable Address Pin. Must be connected directly to VCC, GND or VCC/2 (using two resistors =<1M). Do not float this pin.", 4 GND (power) "Ground Connection.", 5 CLK (in) "Serial Clock Interface. Must be pulled high to VCC with external resistor. The pull-up current must be limited to 350uA.", 6 DATA (io) "Open-Drain Connected Serial Data Interface. Must be pulled high to VCC with external resistor. The pull-up current must be limited to 350uA.", 7 OUT1 (power) "Source Output of Switch 1. Maximum load of 300mA; controlled by 2nd LSB of command byte.", 8 VCC (power) "Input Supply Voltage. Operating range from 2.7V to 5.5V."

## LTC1710CS8#PBF
designator U?
Control Up to 6 Peripherals on Same Bus, 2.7 to 5.5 V Vin, 8-pin SOIC (S8-8), 0 to 70 degC, Pb-Free; Manufacturer: Linear Technology; PartNumber: LTC1710CS8#PBF; PackageVersion: Rev. G, 03/2012; PackageReference: S8-8; PackageDescription: 8-Pin Plastic Small Outline (Narrow .150 Inch), Body 4.9 x 3.9 mm, Pitch 1.27 mm; Supplier 1: Digi-Key; Supplier Part Number 1: LTC1710CS8#PBF-ND; Supplier 2: Newark; Supplier Part Number 2: 56M3434; RoHS: TRUE; Mounting Technology: Surface Mount; ComponentLink1Description: Manufacturer URL; ComponentLink1URL: http://www.linear.com/; ComponentLink2Description: Datasheet; ComponentLink2URL: http://cds.linear.com/docs/en/datasheet/1710f.pdf; ComponentLink3Description: Package Specification; ComponentLink3URL: http://cds.linear.com/docs/en/packaging/05081610_G_SO8.pdf
footprint LT-S8-8_N (SOIC, 8-Leads, Body 5x4mm, Pitch 1.27mm, IPC Medium Density)
footprint LT-S8-8_L (SOIC, 8-Leads, Body 5x4mm, Pitch 1.27mm, IPC High Density)
footprint LT-S8-8_M (SOIC, 8-Leads, Body 5x4mm, Pitch 1.27mm, IPC Low Density)
pins: 1 SW0D (power) "Drain Supply of Switch 0. User-programmable from 0V to VCC.", 2 OUT0 (power) "Source Output of Switch 0. Maximum load of 300mA; controlled by LSB of command byte.", 3 AD1 (in) "Three-State Programmable Address Pin. Must be connected directly to VCC, GND or VCC/2 (using two resistors =<1M). Do not float this pin.", 4 GND (power) "Ground Connection.", 5 CLK (in) "Serial Clock Interface. Must be pulled high to VCC with external resistor. The pull-up current must be limited to 350uA.", 6 DATA (io) "Open-Drain Connected Serial Data Interface. Must be pulled high to VCC with external resistor. The pull-up current must be limited to 350uA.", 7 OUT1 (power) "Source Output of Switch 1. Maximum load of 300mA; controlled by 2nd LSB of command byte.", 8 VCC (power) "Input Supply Voltage. Operating range from 2.7V to 5.5V."

## LTC1710CS8#TR
designator U?
Control Up to 6 Peripherals on Same Bus, 2.7 to 5.5 V Vin, 8-pin SOIC (S8-8), 0 to 70 degC, Tape and Reel; Manufacturer: Linear Technology; PartNumber: LTC1710CS8#TR; PackageVersion: Rev. G, 03/2012; PackageReference: S8-8; PackageDescription: 8-Pin Plastic Small Outline (Narrow .150 Inch), Body 4.9 x 3.9 mm, Pitch 1.27 mm; Supplier 1: Digi-Key; Supplier Part Number 1: LTC1710CS8#TR-ND; Packing: Tape and Reel; RoHS: FALSE; Mounting Technology: Surface Mount; ComponentLink1Description: Manufacturer URL; ComponentLink1URL: http://www.linear.com/; ComponentLink2Description: Datasheet; ComponentLink2URL: http://cds.linear.com/docs/en/datasheet/1710f.pdf; ComponentLink3Description: Package Specification; ComponentLink3URL: http://cds.linear.com/docs/en/packaging/05081610_G_SO8.pdf
footprint LT-S8-8_N (SOIC, 8-Leads, Body 5x4mm, Pitch 1.27mm, IPC Medium Density)
footprint LT-S8-8_L (SOIC, 8-Leads, Body 5x4mm, Pitch 1.27mm, IPC High Density)
footprint LT-S8-8_M (SOIC, 8-Leads, Body 5x4mm, Pitch 1.27mm, IPC Low Density)
pins: 1 SW0D (power) "Drain Supply of Switch 0. User-programmable from 0V to VCC.", 2 OUT0 (power) "Source Output of Switch 0. Maximum load of 300mA; controlled by LSB of command byte.", 3 AD1 (in) "Three-State Programmable Address Pin. Must be connected directly to VCC, GND or VCC/2 (using two resistors =<1M). Do not float this pin.", 4 GND (power) "Ground Connection.", 5 CLK (in) "Serial Clock Interface. Must be pulled high to VCC with external resistor. The pull-up current must be limited to 350uA.", 6 DATA (io) "Open-Drain Connected Serial Data Interface. Must be pulled high to VCC with external resistor. The pull-up current must be limited to 350uA.", 7 OUT1 (power) "Source Output of Switch 1. Maximum load of 300mA; controlled by 2nd LSB of command byte.", 8 VCC (power) "Input Supply Voltage. Operating range from 2.7V to 5.5V."

## LTC1710CS8#TRPBF
designator U?
Control Up to 6 Peripherals on Same Bus, 2.7 to 5.5 V Vin, 8-pin SOIC (S8-8), 0 to 70 degC, Pb-Free, Tape and Reel; Manufacturer: Linear Technology; PartNumber: LTC1710CS8#TRPBF; PackageVersion: Rev. G, 03/2012; PackageReference: S8-8; PackageDescription: 8-Pin Plastic Small Outline (Narrow .150 Inch), Body 4.9 x 3.9 mm, Pitch 1.27 mm; Supplier 1: Digi-Key; Supplier Part Number 1: LTC1710CS8#TRPBF-ND; Packing: Tape and Reel; RoHS: TRUE; Mounting Technology: Surface Mount; ComponentLink1Description: Manufacturer URL; ComponentLink1URL: http://www.linear.com/; ComponentLink2Description: Datasheet; ComponentLink2URL: http://cds.linear.com/docs/en/datasheet/1710f.pdf; ComponentLink3Description: Package Specification; ComponentLink3URL: http://cds.linear.com/docs/en/packaging/05081610_G_SO8.pdf
footprint LT-S8-8_N (SOIC, 8-Leads, Body 5x4mm, Pitch 1.27mm, IPC Medium Density)
footprint LT-S8-8_L (SOIC, 8-Leads, Body 5x4mm, Pitch 1.27mm, IPC High Density)
footprint LT-S8-8_M (SOIC, 8-Leads, Body 5x4mm, Pitch 1.27mm, IPC Low Density)
pins: 1 SW0D (power) "Drain Supply of Switch 0. User-programmable from 0V to VCC.", 2 OUT0 (power) "Source Output of Switch 0. Maximum load of 300mA; controlled by LSB of command byte.", 3 AD1 (in) "Three-State Programmable Address Pin. Must be connected directly to VCC, GND or VCC/2 (using two resistors =<1M). Do not float this pin.", 4 GND (power) "Ground Connection.", 5 CLK (in) "Serial Clock Interface. Must be pulled high to VCC with external resistor. The pull-up current must be limited to 350uA.", 6 DATA (io) "Open-Drain Connected Serial Data Interface. Must be pulled high to VCC with external resistor. The pull-up current must be limited to 350uA.", 7 OUT1 (power) "Source Output of Switch 1. Maximum load of 300mA; controlled by 2nd LSB of command byte.", 8 VCC (power) "Input Supply Voltage. Operating range from 2.7V to 5.5V."

## LTC1710IS8
designator U?
Control Up to 6 Peripherals on Same Bus, 2.7 to 5.5 V Vin, 8-pin SOIC (S8-8), -40 to 85 degC; Manufacturer: Linear Technology; PartNumber: LTC1710IS8; PackageVersion: Rev. G, 03/2012; PackageReference: S8-8; PackageDescription: 8-Pin Plastic Small Outline (Narrow .150 Inch), Body 4.9 x 3.9 mm, Pitch 1.27 mm; Supplier 1: Digi-Key; Supplier Part Number 1: LTC1710IS8-ND; RoHS: FALSE; Mounting Technology: Surface Mount; ComponentLink1Description: Manufacturer URL; ComponentLink1URL: http://www.linear.com/; ComponentLink2Description: Datasheet; ComponentLink2URL: http://cds.linear.com/docs/en/datasheet/1710f.pdf; ComponentLink3Description: Package Specification; ComponentLink3URL: http://cds.linear.com/docs/en/packaging/05081610_G_SO8.pdf
footprint LT-S8-8_N (SOIC, 8-Leads, Body 5x4mm, Pitch 1.27mm, IPC Medium Density)
footprint LT-S8-8_L (SOIC, 8-Leads, Body 5x4mm, Pitch 1.27mm, IPC High Density)
footprint LT-S8-8_M (SOIC, 8-Leads, Body 5x4mm, Pitch 1.27mm, IPC Low Density)
pins: 1 SW0D (power) "Drain Supply of Switch 0. User-programmable from 0V to VCC.", 2 OUT0 (power) "Source Output of Switch 0. Maximum load of 300mA; controlled by LSB of command byte.", 3 AD1 (in) "Three-State Programmable Address Pin. Must be connected directly to VCC, GND or VCC/2 (using two resistors =<1M). Do not float this pin.", 4 GND (power) "Ground Connection.", 5 CLK (in) "Serial Clock Interface. Must be pulled high to VCC with external resistor. The pull-up current must be limited to 350uA.", 6 DATA (io) "Open-Drain Connected Serial Data Interface. Must be pulled high to VCC with external resistor. The pull-up current must be limited to 350uA.", 7 OUT1 (power) "Source Output of Switch 1. Maximum load of 300mA; controlled by 2nd LSB of command byte.", 8 VCC (power) "Input Supply Voltage. Operating range from 2.7V to 5.5V."

## LTC1710IS8#PBF
designator U?
Control Up to 6 Peripherals on Same Bus, 2.7 to 5.5 V Vin, 8-pin SOIC (S8-8), -40 to 85 degC, Pb-Free; Manufacturer: Linear Technology; PartNumber: LTC1710IS8#PBF; PackageVersion: Rev. G, 03/2012; PackageReference: S8-8; PackageDescription: 8-Pin Plastic Small Outline (Narrow .150 Inch), Body 4.9 x 3.9 mm, Pitch 1.27 mm; Supplier 1: Digi-Key; Supplier Part Number 1: LTC1710IS8#PBF-ND; RoHS: TRUE; Mounting Technology: Surface Mount; ComponentLink1Description: Manufacturer URL; ComponentLink1URL: http://www.linear.com/; ComponentLink2Description: Datasheet; ComponentLink2URL: http://cds.linear.com/docs/en/datasheet/1710f.pdf; ComponentLink3Description: Package Specification; ComponentLink3URL: http://cds.linear.com/docs/en/packaging/05081610_G_SO8.pdf
footprint LT-S8-8_N (SOIC, 8-Leads, Body 5x4mm, Pitch 1.27mm, IPC Medium Density)
footprint LT-S8-8_L (SOIC, 8-Leads, Body 5x4mm, Pitch 1.27mm, IPC High Density)
footprint LT-S8-8_M (SOIC, 8-Leads, Body 5x4mm, Pitch 1.27mm, IPC Low Density)
pins: 1 SW0D (power) "Drain Supply of Switch 0. User-programmable from 0V to VCC.", 2 OUT0 (power) "Source Output of Switch 0. Maximum load of 300mA; controlled by LSB of command byte.", 3 AD1 (in) "Three-State Programmable Address Pin. Must be connected directly to VCC, GND or VCC/2 (using two resistors =<1M). Do not float this pin.", 4 GND (power) "Ground Connection.", 5 CLK (in) "Serial Clock Interface. Must be pulled high to VCC with external resistor. The pull-up current must be limited to 350uA.", 6 DATA (io) "Open-Drain Connected Serial Data Interface. Must be pulled high to VCC with external resistor. The pull-up current must be limited to 350uA.", 7 OUT1 (power) "Source Output of Switch 1. Maximum load of 300mA; controlled by 2nd LSB of command byte.", 8 VCC (power) "Input Supply Voltage. Operating range from 2.7V to 5.5V."

## LTC1710IS8#TR
designator U?
Control Up to 6 Peripherals on Same Bus, 2.7 to 5.5 V Vin, 8-pin SOIC (S8-8), -40 to 85 degC, Tape and Reel; Manufacturer: Linear Technology; PartNumber: LTC1710IS8#TR; PackageVersion: Rev. G, 03/2012; PackageReference: S8-8; PackageDescription: 8-Pin Plastic Small Outline (Narrow .150 Inch), Body 4.9 x 3.9 mm, Pitch 1.27 mm; Supplier 1: Digi-Key; Supplier Part Number 1: LTC1710IS8#TR-ND; Packing: Tape and Reel; RoHS: FALSE; Mounting Technology: Surface Mount; ComponentLink1Description: Manufacturer URL; ComponentLink1URL: http://www.linear.com/; ComponentLink2Description: Datasheet; ComponentLink2URL: http://cds.linear.com/docs/en/datasheet/1710f.pdf; ComponentLink3Description: Package Specification; ComponentLink3URL: http://cds.linear.com/docs/en/packaging/05081610_G_SO8.pdf
footprint LT-S8-8_N (SOIC, 8-Leads, Body 5x4mm, Pitch 1.27mm, IPC Medium Density)
footprint LT-S8-8_L (SOIC, 8-Leads, Body 5x4mm, Pitch 1.27mm, IPC High Density)
footprint LT-S8-8_M (SOIC, 8-Leads, Body 5x4mm, Pitch 1.27mm, IPC Low Density)
pins: 1 SW0D (power) "Drain Supply of Switch 0. User-programmable from 0V to VCC.", 2 OUT0 (power) "Source Output of Switch 0. Maximum load of 300mA; controlled by LSB of command byte.", 3 AD1 (in) "Three-State Programmable Address Pin. Must be connected directly to VCC, GND or VCC/2 (using two resistors =<1M). Do not float this pin.", 4 GND (power) "Ground Connection.", 5 CLK (in) "Serial Clock Interface. Must be pulled high to VCC with external resistor. The pull-up current must be limited to 350uA.", 6 DATA (io) "Open-Drain Connected Serial Data Interface. Must be pulled high to VCC with external resistor. The pull-up current must be limited to 350uA.", 7 OUT1 (power) "Source Output of Switch 1. Maximum load of 300mA; controlled by 2nd LSB of command byte.", 8 VCC (power) "Input Supply Voltage. Operating range from 2.7V to 5.5V."

## LTC1710IS8#TRPBF
designator U?
Control Up to 6 Peripherals on Same Bus, 2.7 to 5.5 V Vin, 8-pin SOIC (S8-8), -40 to 85 degC, Pb-Free, Tape and Reel; Manufacturer: Linear Technology; PartNumber: LTC1710IS8#TRPBF; PackageVersion: Rev. G, 03/2012; PackageReference: S8-8; PackageDescription: 8-Pin Plastic Small Outline (Narrow .150 Inch), Body 4.9 x 3.9 mm, Pitch 1.27 mm; Supplier 1: Digi-Key; Supplier Part Number 1: LTC1710IS8#TRPBF-ND; Packing: Tape and Reel; RoHS: TRUE; Mounting Technology: Surface Mount; ComponentLink1Description: Manufacturer URL; ComponentLink1URL: http://www.linear.com/; ComponentLink2Description: Datasheet; ComponentLink2URL: http://cds.linear.com/docs/en/datasheet/1710f.pdf; ComponentLink3Description: Package Specification; ComponentLink3URL: http://cds.linear.com/docs/en/packaging/05081610_G_SO8.pdf
footprint LT-S8-8_N (SOIC, 8-Leads, Body 5x4mm, Pitch 1.27mm, IPC Medium Density)
footprint LT-S8-8_L (SOIC, 8-Leads, Body 5x4mm, Pitch 1.27mm, IPC High Density)
footprint LT-S8-8_M (SOIC, 8-Leads, Body 5x4mm, Pitch 1.27mm, IPC Low Density)
pins: 1 SW0D (power) "Drain Supply of Switch 0. User-programmable from 0V to VCC.", 2 OUT0 (power) "Source Output of Switch 0. Maximum load of 300mA; controlled by LSB of command byte.", 3 AD1 (in) "Three-State Programmable Address Pin. Must be connected directly to VCC, GND or VCC/2 (using two resistors =<1M). Do not float this pin.", 4 GND (power) "Ground Connection.", 5 CLK (in) "Serial Clock Interface. Must be pulled high to VCC with external resistor. The pull-up current must be limited to 350uA.", 6 DATA (io) "Open-Drain Connected Serial Data Interface. Must be pulled high to VCC with external resistor. The pull-up current must be limited to 350uA.", 7 OUT1 (power) "Source Output of Switch 1. Maximum load of 300mA; controlled by 2nd LSB of command byte.", 8 VCC (power) "Input Supply Voltage. Operating range from 2.7V to 5.5V."